# Altium footprint library SnapEDApcb.PcbLib: 1 footprints
Each footprint in its own frame and in the unit in brackets; x right, y up, seen from the top. Pads: shape width x height; smd on the part's side, far side on the other; paste and mask are expansions set on the pad; w line width, h text height; cw(c..) or ccw(c..) is an arc to the next point about the centre after c.
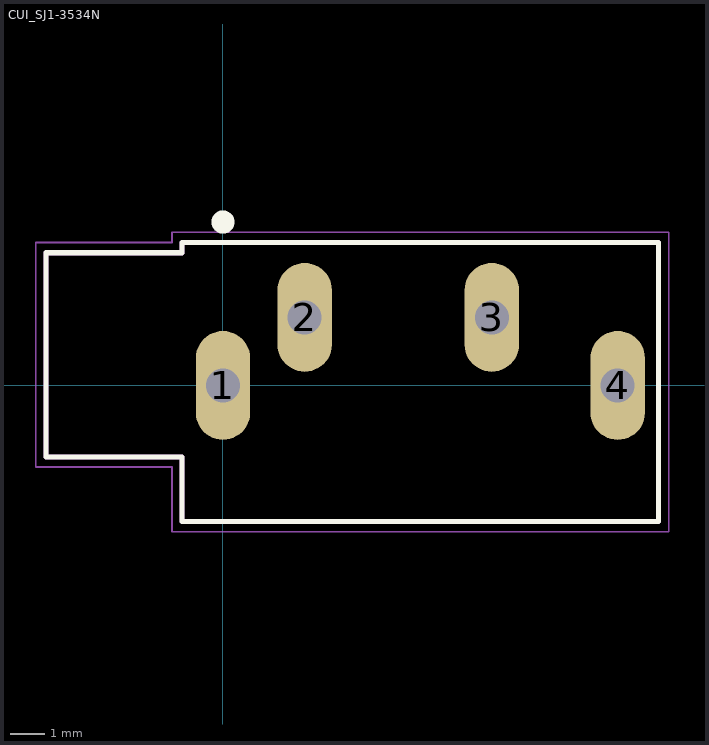
[diagram p0: the footprint, top view; thin cyan lines are the x and y axes]

## CUI_SJ1-3534N [mm]
pads (4):
  oval 1.6x3.2 hole 1 square: 1(0,0) 2(2.4,2) 3(7.9,2) 4(11.6,0)
Top Overlay:
  circle w0.34: c0,4.8 r0.17
  lines w0.152: -5.2,-2.1 -5.2,3.9 -1.2,3.9 -1.2,4.2 12.8,4.2 12.8,-4 -1.2,-4 -1.2,-2.1 -5.2,-2.1
Mechanical 13:
  lines w0.152: -5.2,-2.1 -5.2,3.9 -1.2,3.9 -1.2,4.2 12.8,4.2 12.8,-4 -1.2,-4 -1.2,-2.1 -5.2,-2.1
Mechanical 15:
  lines w0.05: -5.5,-2.4 -5.5,4.2 -1.5,4.2 -1.5,4.5 13.1,4.5 13.1,-4.3 -1.5,-4.3 -1.5,-2.4 -5.5,-2.4
3D body "sj1-3534n.stp": height 11.65, standoff -3.95, extent -5.2,-4 12.8,4.2